# Altium footprint library PcbLib1.PcbLib: 2 footprints
Each footprint in its own frame and in the unit in brackets; x right, y up, seen from the top. Pads: shape width x height; smd on the part's side, far side on the other; paste and mask are expansions set on the pad; w line width, h text height; cw(c..) or ccw(c..) is an arc to the next point about the centre after c.
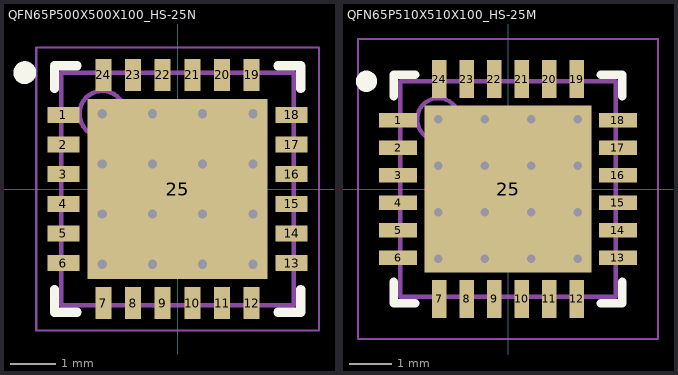
[diagram p0: the footprints below, top view; thin cyan lines are the x and y axes]

## QFN65P500X500X100_HS-25N [mm] "QFN, 24-Leads, Body 5.00x5.00mm, Pitch 0.65mm, Thermal Pad 3.95x3.95mm, IPC Medium Density"
height 1
pads (25):
  rect 0.7x0.35 smd: 1(-2.5,1.625) 2(-2.5,0.975) 3(-2.5,0.325) 4(-2.5,-0.325) 5(-2.5,-0.975) 6(-2.5,-1.625) 13(2.5,-1.625) 14(2.5,-0.975) 15(2.5,-0.325) 16(2.5,0.325) 17(2.5,0.975) 18(2.5,1.625)
  rect 0.35x0.7 smd: 7(-1.625,-2.5) 8(-0.975,-2.5) 9(-0.325,-2.5) 10(0.325,-2.5) 11(0.975,-2.5) 12(1.625,-2.5) 19(1.625,2.5) 20(0.975,2.5) 21(0.325,2.5) 22(-0.325,2.5) 23(-0.975,2.5) 24(-1.625,2.5)
  rect 3.95x3.95 smd: 25(0,0)
via 1.65,-1.65 diameter 0.5 hole 0.2
via 0.55,-1.65 diameter 0.5 hole 0.2
via -0.55,-1.65 diameter 0.5 hole 0.2
via -1.65,-1.65 diameter 0.5 hole 0.2
via 1.65,-0.55 diameter 0.5 hole 0.2
via 0.55,-0.55 diameter 0.5 hole 0.2
via -0.55,-0.55 diameter 0.5 hole 0.2
via -1.65,-0.55 diameter 0.5 hole 0.2
via 1.65,0.55 diameter 0.5 hole 0.2
via 0.55,0.55 diameter 0.5 hole 0.2
via -0.55,0.55 diameter 0.5 hole 0.2
via -1.65,0.55 diameter 0.5 hole 0.2
via 1.65,1.65 diameter 0.5 hole 0.2
via 0.55,1.65 diameter 0.5 hole 0.2
via -0.55,1.65 diameter 0.5 hole 0.2
via -1.65,1.65 diameter 0.5 hole 0.2
Top Overlay:
  circle w0.25: c-3.35,2.55 r0.125
  lines w0.2: -2.7,-2.2 -2.7,-2.7 -2.2,-2.7 ; -2.7,2.2 -2.7,2.7 -2.2,2.7 ; 2.2,-2.7 2.7,-2.7 2.7,-2.2 ; 2.2,2.7 2.7,2.7 2.7,2.2
Mechanical 13:
  circle w0.1: c-1.65,1.65 r0.5
  lines w0.1: -2.55,-2.55 2.55,-2.55 2.55,2.55 -2.55,2.55 -2.55,-2.55
Mechanical 15:
  lines w0.05: -3.1,-3.1 3.1,-3.1 3.1,3.1 -3.1,3.1 -3.1,-3.1
  lines w0.1: -0.5,0 0.5,0 ; 0,-0.5 0,0.5
3D body: height 1, standoff 0.05, extent -2.55,-2.55 2.55,2.55

## QFN65P510X510X100_HS-25M [mm] "QFN, 24-Leads, Body 5.10x5.10mm, Pitch 0.65mm, Thermal Pad 3.95x3.95mm, IPC Low Density"
height 1
pads (25):
  rect 0.9x0.35 smd: 1(-2.6,1.625) 2(-2.6,0.975) 3(-2.6,0.325) 4(-2.6,-0.325) 5(-2.6,-0.975) 6(-2.6,-1.625) 13(2.6,-1.625) 14(2.6,-0.975) 15(2.6,-0.325) 16(2.6,0.325) 17(2.6,0.975) 18(2.6,1.625)
  rect 0.35x0.9 smd: 7(-1.625,-2.6) 8(-0.975,-2.6) 9(-0.325,-2.6) 10(0.325,-2.6) 11(0.975,-2.6) 12(1.625,-2.6) 19(1.625,2.6) 20(0.975,2.6) 21(0.325,2.6) 22(-0.325,2.6) 23(-0.975,2.6) 24(-1.625,2.6)
  rect 3.95x3.95 smd: 25(0,0)
via 1.65,-1.65 diameter 0.5 hole 0.2
via 0.55,-1.65 diameter 0.5 hole 0.2
via -0.55,-1.65 diameter 0.5 hole 0.2
via -1.65,-1.65 diameter 0.5 hole 0.2
via 1.65,-0.55 diameter 0.5 hole 0.2
via 0.55,-0.55 diameter 0.5 hole 0.2
via -0.55,-0.55 diameter 0.5 hole 0.2
via -1.65,-0.55 diameter 0.5 hole 0.2
via 1.65,0.55 diameter 0.5 hole 0.2
via 0.55,0.55 diameter 0.5 hole 0.2
via -0.55,0.55 diameter 0.5 hole 0.2
via -1.65,0.55 diameter 0.5 hole 0.2
via 1.65,1.65 diameter 0.5 hole 0.2
via 0.55,1.65 diameter 0.5 hole 0.2
via -0.55,1.65 diameter 0.5 hole 0.2
via -1.65,1.65 diameter 0.5 hole 0.2
Top Overlay:
  circle w0.25: c-3.35,2.55 r0.125
  lines w0.2: -2.7,-2.2 -2.7,-2.7 -2.2,-2.7 ; -2.7,2.2 -2.7,2.7 -2.2,2.7 ; 2.2,-2.7 2.7,-2.7 2.7,-2.2 ; 2.2,2.7 2.7,2.7 2.7,2.2
Mechanical 13:
  circle w0.1: c-1.65,1.65 r0.5
  lines w0.1: -2.55,-2.55 2.55,-2.55 2.55,2.55 -2.55,2.55 -2.55,-2.55
Mechanical 15:
  lines w0.05: -3.55,-3.55 3.55,-3.55 3.55,3.55 -3.55,3.55 -3.55,-3.55
  lines w0.1: -0.5,0 0.5,0 ; 0,-0.5 0,0.5
3D body "QFN65P510X510X100_HS-25M.step": height 1, standoff 0, extent -2.6,-2.6 2.6,2.6